# EAGLE library part 1725698 (library 1725698)
Conn PC Terminal Block 6 POS 2.54mm Solder ST Thru-Hole 6A Source: Datasheet <https://www.phoenixcontact.com/online/portal/us/pxc/product_detail_page/!ut/p/z1/5Vddc6IwFP0r7oNvxYSPBHhEdNda6-KKW-GFISE6tHwVUmn76zeonY7dVmfH8WEH5s6QhHtv7jnJYeYCHyyBn4WbeB3yOM_CRMw9Hwdu3x0OHQXLP2eoD68HyB5OtF_yaKqA38AHfsUSRjmL7JCzdV6-AM-aTJoPPCTAk5tRQekD8B>
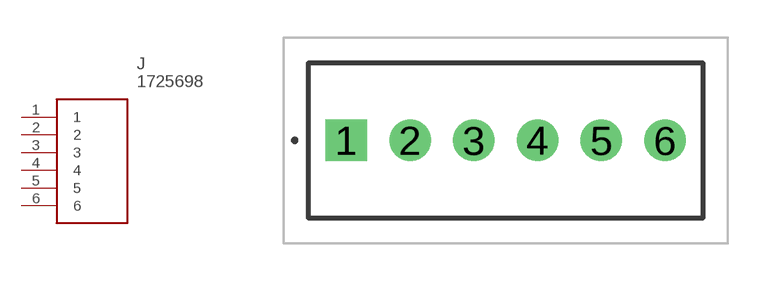
[diagram p0: symbol with the pads of 1725698; footprint 1725698]

Designator prefix J

## 1725698 (Arrow_Part_Number: 1725698; Arrow_Price-Stock: https://www.arrow.com/en/products/1725698/phoenix-contact?region=nac; Description: Conn PC Terminal Block 6 POS 2.54mm Solder ST Thru-Hole 6A; Height: 8.65mm; Manufacturer_Name: Phoenix Contact; Manufacturer_Part_Number: 1725698; Mouser_Part_Number: 651-1725698; Mouser_Price-Stock: https://www.mouser.co.uk/ProductDetail/Phoenix-Contact/1725698?qs=Ul7CXFMnlWUIR3VpVwwC4A%3D%3D)  [1725698]
1  1
2  2
3  3
4  4
5  5
6  6

## Footprint 1725698 (pad centres in mm)
1725698
drill 1.1 pad 1.65 square: 1 0,0
drill 1.1 pad 1.65: 2 2.54,0; 3 5.08,0; 4 7.62,0; 5 10.16,0; 6 12.7,0